# EAGLE library part 74*1G3157 (library 74xx-little-de)
Single-Pole, Double-Throw Analog Switch Source: http://focus.ti.com/lit/ds/symlink/sn74lvc1g3157.pdf
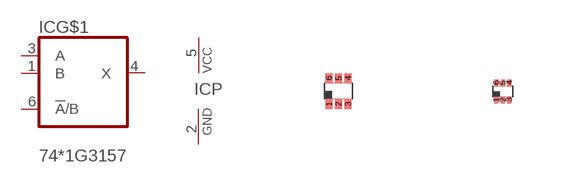
[diagram p1: symbol with the pads of DBV_R-PDSO-G6; footprints DBV_R-PDSO-G6, DCK_R-PDSO-G6]

Designator prefix IC; gates G$1=743157 P=PWRN

## 741G3157DBVR  [DBV_R-PDSO-G6]
1  G$1:B
2  P:GND  pwr
3  G$1:A
4  G$1:X
5  P:VCC  pwr
6  G$1:!A!/B  in

## 741G3157DCKR  [DCK_R-PDSO-G6]
Pads as for DBV_R-PDSO-G6

## 741G3157DRLR  [DRL_R-PDSO-N6]
Pads as for DBV_R-PDSO-G6

## 741G3157YEPR  [YEP_R-XBGA-N6]
A1  G$1:B
A2  G$1:!A!/B  in
B1  P:GND  pwr
B2  P:VCC  pwr
C1  G$1:A
C2  G$1:X

## 741G3157ZYPR  [YZP_R-XBGA-N6]
Pads as for YEP_R-XBGA-N6

## Footprint DBV_R-PDSO-G6 (pad centres in mm)
DBV (R-PDSO-G6) PLASTIC SMALL-OUTLINE PACKAGE SOT (SOT-23) - DBV Source: http://focus.ti.com/lit/ds/symlink/sn74lvc1g3157.
smd 0.172 x 0.247: 1 -0.237,-0.323; 2 0,-0.323; 3 0.237,-0.323; 4 0.237,0.325; 5 0,0.325; 6 -0.237,0.325

## Footprint DCK_R-PDSO-G6 (pad centres in mm)
DCK (R-PDSO-G6) PLASTIC SMALL-OUTLINE PACKAGE SOT (SC-70) - DCK Source: http://focus.ti.com/lit/ds/symlink/sn74lvc1g3157.
smd 0.1 x 0.175: 1 -0.163,-0.212; 2 0,-0.212; 3 0.163,-0.212; 4 0.163,0.212; 5 0,0.212; 6 -0.163,0.212

## Footprint DRL_R-PDSO-N6 (pad centres in mm)
DRL (R-PDSO-N6) PLASTIC SMALL OUTLINE SOT (SOT-553) - DRL Source: http://focus.ti.com/lit/ds/symlink/sn74lvc1g3157.pdf
smd 0.087 x 0.138: 1 -0.125,-0.169; 2 0,-0.169; 3 0.125,-0.169; 4 0.125,0.169; 5 0,0.169; 6 -0.125,0.169

## Footprint YEP_R-XBGA-N6 (pad centres in mm)
YEP (R-XBGA-N6) DIE-SIZE BALL GRID ARRAY NanoStar TM - WCSP (DSBG A)0.23-mm Large Bump - YEP Source: http://focus.ti.com/lit/ds/symlink/sn74lvc1g3157
smd 0.075 x 0.075: A1 -0.125,-0.062; A2 -0.125,0.062; B1 0,-0.062; B2 0,0.062; C1 0.125,-0.062; C2 0.125,0.062

## Footprint YZP_R-XBGA-N6 (pad centres in mm)
YZP (R-XBGA-N6) DIE-SIZE BALL GRID ARRAY NanoFree TM - WCSP (DSBGA) 0.23-mm Large Bump - YZP (Pb-free) Source: http://focus.ti.com/lit/ds/symlink/sn74lvc1g3157
smd 0.075 x 0.075: A1 -0.125,-0.062; A2 -0.125,0.062; B1 0,-0.062; B2 0,0.062; C1 0.125,-0.062; C2 0.125,0.062